# EAGLE library part WE-LAN_10/100_BASETX_749012011 (library Wuerth_Elektronik_eiSos_ v6.0)
LAN-Transformer WE-LAN 10/100 Base Tx - Compliant with IEEE 802.3 standards - SMD -- Ethernet -- Power over Ethernet -- 1 Gigabit Ethernet -- Compliant with most IC's for ethernet applications like Intel, AMD, Globespan and Realtek -- Hub, Router, Switch
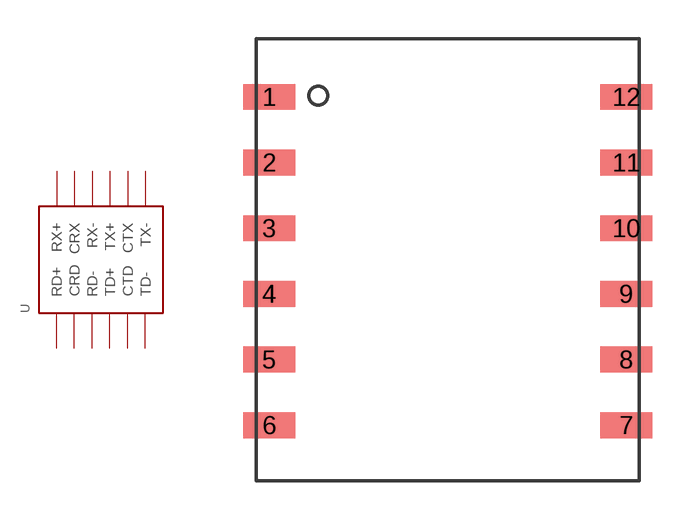
[diagram p26: symbol with the pads of WE-LAN_10/100_BASETX_749012011; footprint WE-LAN_10/100_BASETX_749012011]

Designator prefix -

## WE-LAN_10/100_BASETX_749012011  [WE-LAN_10/100_BASETX_749012011]
1  RD+  pas
2  CRD  pas
3  RD-  pas
4  TD+  pas
5  CTD  pas
6  TD-  pas
7  TX-  pas
8  CTX  pas
9  TX+  pas
10  RX-  pas
11  CRX  pas
12  RX+  pas

## Footprint WE-LAN_10/100_BASETX_749012011 (pad centres in mm)
WE-LAN 10/100 BaseTx
smd 2 x 1: 1 -6.9,6.35; 2 -6.9,3.81; 3 -6.9,1.27; 4 -6.9,-1.27; 5 -6.9,-3.81; 6 -6.9,-6.35; 7 6.9,-6.35; 8 6.9,-3.81; 9 6.9,-1.27; 10 6.9,1.27; 11 6.9,3.81; 12 6.9,6.35